# Altium footprint library 1121.PcbLib: 1 footprints
Each footprint in its own frame and in the unit in brackets; x right, y up, seen from the top. Pads: shape width x height; smd on the part's side, far side on the other; paste and mask are expansions set on the pad; w line width, h text height; cw(c..) or ccw(c..) is an arc to the next point about the centre after c.
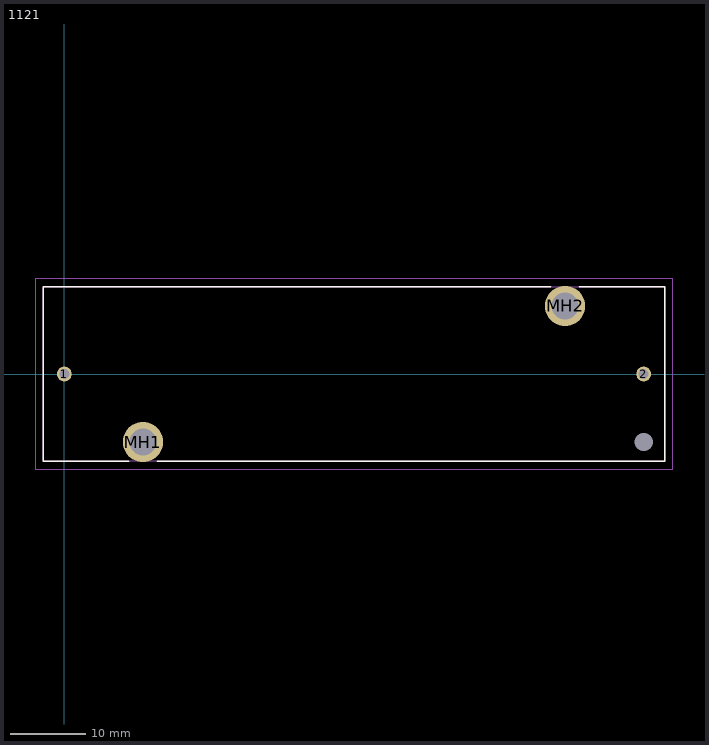
[diagram p0: the footprint, top view; thin cyan lines are the x and y axes]

## 1121 [mm]
pads (5):
  round 1.98 hole 1.32: 1(0,0) 2(76.66,0)
  round 5.325 hole 3.55: MH1(10.405,-9) MH2(66.255,9)
  round 1.195 hole 2.39 unplated: MH3(76.66,-9)
Top Overlay:
  lines w0.2: 8.53,-11.53 -2.765,-11.53 -2.765,11.53 64.33,11.53 ; 12.33,-11.53 79.425,-11.53 79.425,11.53 68.13,11.53
Mechanical 15:
  lines w0.1: -2.765,-11.53 79.425,-11.53 79.425,11.53 -2.765,11.53 -2.765,-11.53
Mechanical 20:
  lines w0.1: -3.765,-12.662 80.425,-12.662 80.425,12.662 -3.765,12.662 -3.765,-12.662